# Altium footprint library SamacSys.PcbLib: 39 footprints (part 1 of 3)
Each footprint in its own frame and in the unit in brackets; x right, y up, seen from the top. Pads: shape width x height; smd on the part's side, far side on the other; paste and mask are expansions set on the pad; w line width, h text height; cw(c..) or ccw(c..) is an arc to the next point about the centre after c.
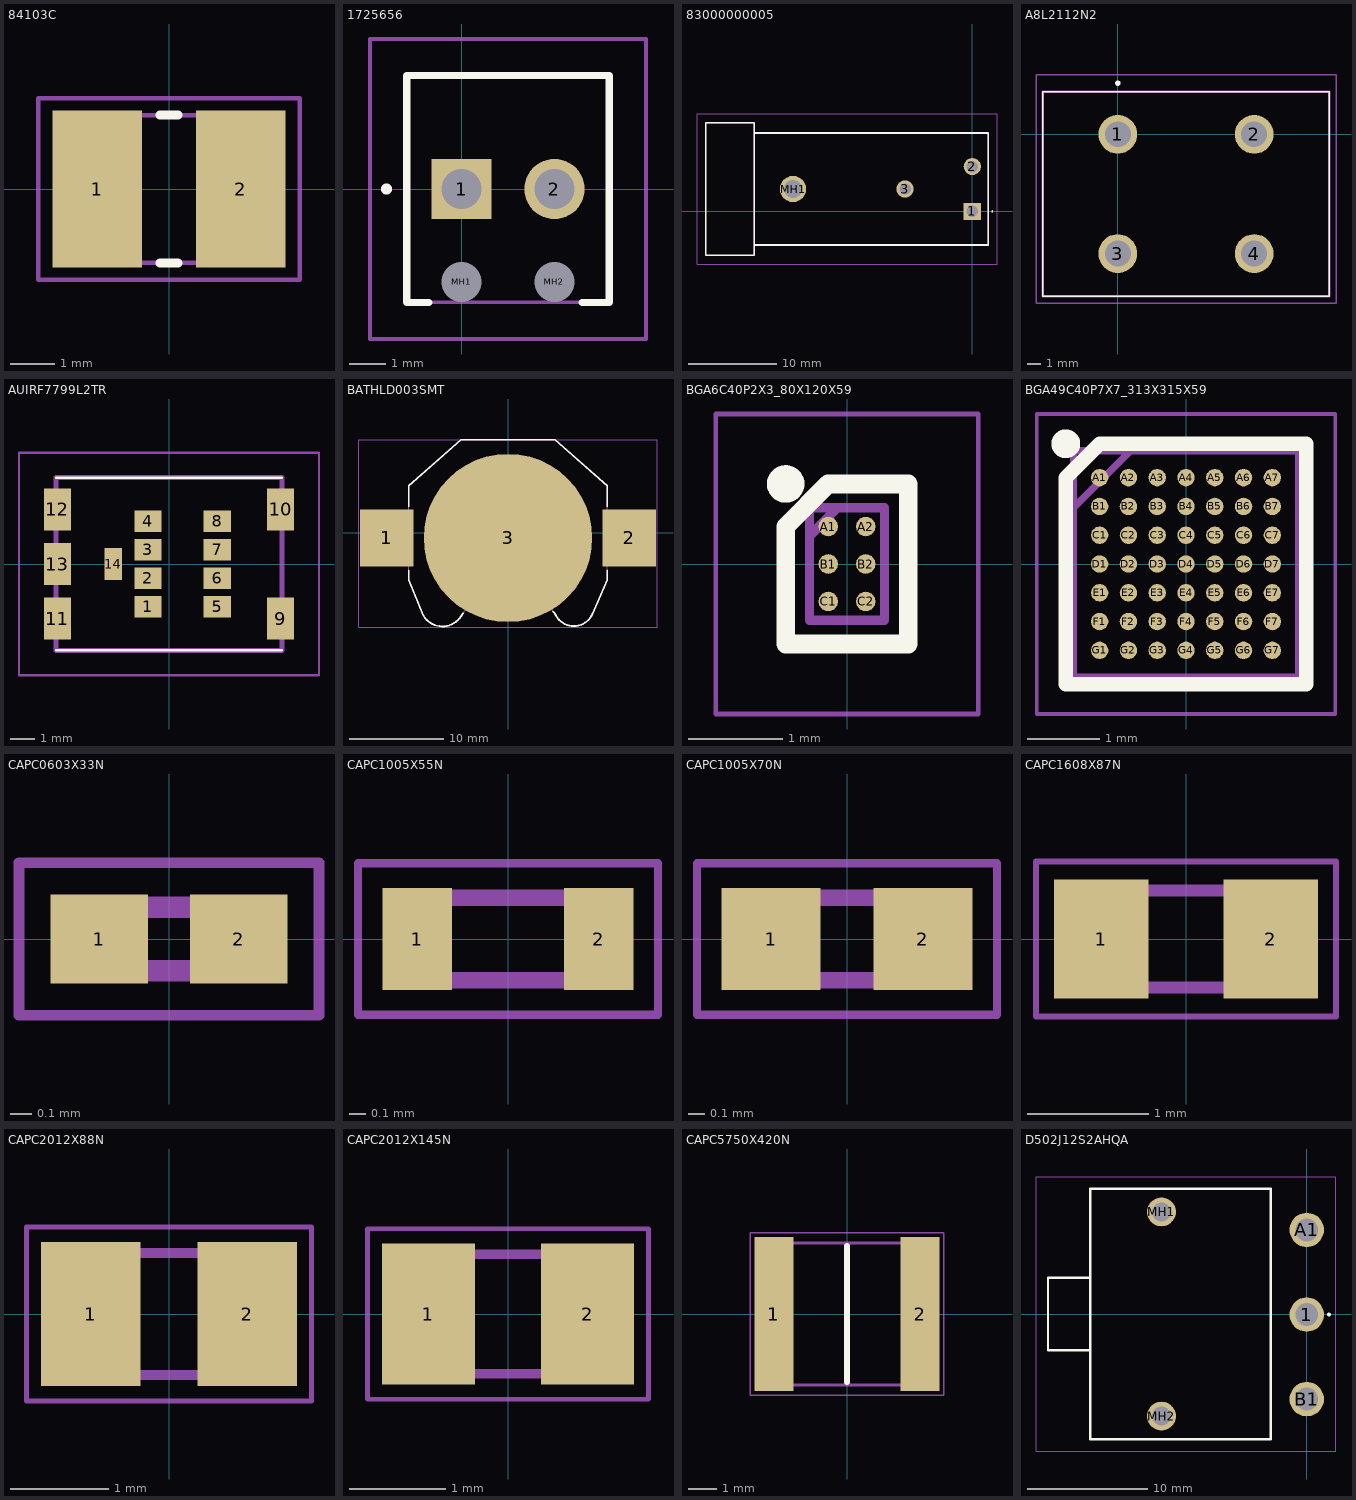
[diagram p0: the footprints below, top view; thin cyan lines are the x and y axes]

## 84103C [mm]
pads (2):
  rect 2x3.5 smd: 1(-1.6,0) 2(1.6,0)
Top Overlay:
  lines w0.2: -0.2,-1.65 0.2,-1.65 ; -0.2,1.65 0.2,1.65
Mechanical 13:
  lines w0.1: -2.25,-1.65 -2.25,1.65 2.25,1.65 2.25,-1.65 -2.25,-1.65
Mechanical 15:
  lines w0.1: -2.921,-2.032 -2.921,2.032 2.921,2.032 2.921,-2.032 -2.921,-2.032
3D body "84103C.stp": height 2.63, standoff 0, extent -2.25,-1.524 2.25,1.676

## 1725656 [mm]
pads (4):
  rect 1.65x1.65 hole 1.1: 1(0,0)
  round 1.65 hole 1.1: 2(2.54,0)
  round 0.55 hole 1.1 unplated: MH1(0,-2.54) MH2(2.54,-2.54)
Top Overlay:
  lines w0.2: -0.9,-3.1 -1.5,-3.1 -1.5,3.1 4.04,3.1 4.04,-3.1 3.3,-3.1 ; -2.1,0 ccw(c-2.05,0) -2,0 ; -2.1,0 cw(c-2.05,0) -2,0 ; -2.1,0 ccw(c-2.05,0) -2,0
Mechanical 13:
  lines w0.1: -1.5,-3.1 4.04,-3.1 4.04,3.1 -1.5,3.1 -1.5,-3.1
Mechanical 15:
  lines w0.1: -2.5,-4.1 5.04,-4.1 5.04,4.1 -2.5,4.1 -2.5,-4.1
3D body "1725656.stp": height 9, standoff -3, extent -1.5,-3.1 4.04,3.1

## 83000000005 [mm]
pads (4):
  rect 1.95x1.95 hole 1.3: 1(0,0)
  round 1.95 hole 1.3: 2(0,5.08) 3(-7.62,2.54)
  round 3 hole 2: MH1(-20.32,2.54)
Top Overlay:
  lines w0.1: 2.2,0 cw(c2.25,0) 2.3,0 cw(c2.25,0) 2.2,0
  lines w0.2: -24.7,-3.81 -24.7,10.04 ; -24.7,-3.81 -24.7,-4.96 -30.2,-4.96 -30.2,10.04 -24.7,10.04 ; -24.7,-3.81 1.8,-3.81 1.8,8.89 -24.7,8.89 -24.7,10.04
Mechanical 13:
  lines w0.1: -24.7,-3.81 -24.7,-4.96 -30.2,-4.96 -30.2,10.04 -24.7,10.04 -24.7,8.89 ; -24.7,-3.81 1.8,-3.81 1.8,8.89 -24.7,8.89 ; -24.7,-3.81 -24.7,8.89
Mechanical 15:
  lines w0.1: -31.2,-5.96 -31.2,11.04 ; -31.2,-5.96 2.8,-5.96 ; -31.2,-5.96 -31.2,11.04 ; -31.2,-5.96 2.8,-5.96 ; -31.2,11.04 2.8,11.04 ; -31.2,11.04 2.8,11.04 ; 2.8,-5.96 2.8,11.04 ; 2.8,-5.96 2.8,11.04
3D body "83000000005.stp": height 16.55, standoff -4, extent -30.2,-4.957 1.8,10.033

## A8L2112N2 [mm]
pads (4):
  round 2.85 hole 1.9: 1(0,0) 2(10,0) 3(0,-8.75) 4(10,-8.75)
Top Overlay:
  lines w0.1: -5.5,-11.875 -5.5,3.125 15.5,3.125 15.5,-11.875 -5.5,-11.875
  lines w0.2: -0.1,3.75 cw(c0,3.75) 0.1,3.75 cw(c0,3.75) -0.1,3.75
Mechanical 13:
  lines w0.2: -5.5,-11.875 -5.5,3.125 15.5,3.125 15.5,-11.875 -5.5,-11.875
Mechanical 15:
  lines w0.1: -6,-12.375 -6,4.35 16,4.35 16,-12.375 -6,-12.375
3D body "A8L-21-12N2.stp": height 22.2, standoff -5, extent -5.5,-11.875 15.5,3.125

## AUIRF7799L2TR [mm]
pads (14):
  rect 1.1x0.85 smd: 1(-0.85,-1.725) 2(-0.85,-0.575) 3(-0.85,0.575) 4(-0.85,1.725) 5(1.95,-1.725) 6(1.95,-0.575) 7(1.95,0.575) 8(1.95,1.725)
  rect 1.1x1.7 smd: 9(4.5,-2.2) 10(4.5,2.2) 11(-4.5,-2.2) 12(-4.5,2.2) 13(-4.5,0)
  rect 0.7x1.3 smd: 14(-2.25,0)
Top Overlay:
  lines w0.1: -4.55,-3.487 4.55,-3.487 ; -4.55,3.488 4.55,3.488
Mechanical 13:
  lines w0.2: -4.55,-3.487 -4.55,3.488 4.55,3.488 4.55,-3.487 -4.55,-3.487
Mechanical 15:
  lines w0.1: -6.05,-4.487 -6.05,4.488 6.05,4.488 6.05,-4.487 -6.05,-4.487
3D body "AUIRF7799L2TR.stp": height 0.84, standoff 0, extent -4.94,-3.487 4.94,3.488

## BATHLD003SMT [mm]
pads (3):
  rect 5.7x6.1 smd: 1(-12.9,-0.55) 2(12.9,-0.55)
  round 17.9 smd: 3(0,-0.55)
Top Overlay:
  lines w0.2: -10.55,-4 -10.55,-5 -9,-8.8 ; -10.55,2.8 -10.55,5 -5,9.9 5,9.9 10.55,5 10.55,2.8 ; -9,-8.799 ccw(c-6.969,-7.588) -5.001,-8.9 -4.8,-8.6 ; 4.8,-8.4 5,-8.6 ; 5,-8.6 ccw(c7,-7.739) 8.999,-8.6 ; 9,-8.6 10.55,-5 10.55,-4
Mechanical 13:
  lines w0.1: -9,-8.8 -10.55,-5 -10.55,5 -5,9.9 0,9.9 5,9.9 10.55,5 10.55,-5 9,-8.6 ; -8.999,-8.801 ccw(c-6.966,-7.495) -4.998,-8.899 ; -5,-8.9 -4,-7.5 ; -4.005,-7.506 cw(c-0.001,-11.137) 3.998,-7.499 ; 4,-7.5 5,-8.6 ; 5,-8.6 ccw(c7,-7.739) 8.999,-8.6
Mechanical 15:
  lines w0.1: -15.875,-10.033 -15.875,9.906 15.875,9.906 15.875,-10.033 -15.875,-10.033
3D body "BAT-HLD-003-SMT.stp": height 4, standoff 0.1, extent -15.32,-9.92 15.18,9.88

## BGA6C40P2X3_80X120X59 [mm]
pads (6):
  round 0.208 smd: A1(-0.2,0.4) A2(0.2,0.4) B1(-0.2,0) B2(0.2,0) C1(-0.2,-0.4) C2(0.2,-0.4)
Top Overlay:
  circle w0.2: c-0.654,0.854 r0.1
  lines w0.2: -0.654,-0.854 -0.654,0.4 -0.2,0.854 0.654,0.854 0.654,-0.854 -0.654,-0.854
Mechanical 13:
  lines w0.1: -0.4,0.3 -0.1,0.6 ; -0.4,-0.6 -0.4,0.6 0.4,0.6 0.4,-0.6 -0.4,-0.6
Mechanical 15:
  lines w0.05: -1.4,-1.6 -1.4,1.6 1.4,1.6 1.4,-1.6 -1.4,-1.6
3D body "TCK402G.stp": height 0.55, standoff 0, extent -0.4,-0.6 0.4,0.6

## BGA49C40P7X7_313X315X59 [mm]
pads (49):
  round 0.242 smd: A1(-1.2,1.2) A2(-0.8,1.2) A3(-0.4,1.2) A4(0,1.2) A5(0.4,1.2) A6(0.8,1.2) A7(1.2,1.2) B1(-1.2,0.8) B2(-0.8,0.8) B3(-0.4,0.8) B4(0,0.8) B5(0.4,0.8) B6(0.8,0.8) B7(1.2,0.8) C1(-1.2,0.4) C2(-0.8,0.4) C3(-0.4,0.4) C4(0,0.4) C5(0.4,0.4) C6(0.8,0.4) C7(1.2,0.4) D1(-1.2,0) D2(-0.8,0) D3(-0.4,0) D4(0,0) D5(0.4,0) D6(0.8,0) D7(1.2,0) E1(-1.2,-0.4) E2(-0.8,-0.4) E3(-0.4,-0.4) E4(0,-0.4) E5(0.4,-0.4) E6(0.8,-0.4) E7(1.2,-0.4) F1(-1.2,-0.8) F2(-0.8,-0.8) F3(-0.4,-0.8) F4(0,-0.8) F5(0.4,-0.8) F6(0.8,-0.8) F7(1.2,-0.8) G1(-1.2,-1.2) G2(-0.8,-1.2) G3(-0.4,-1.2) G4(0,-1.2) G5(0.4,-1.2) G6(0.8,-1.2) G7(1.2,-1.2)
Top Overlay:
  circle w0.2: c-1.671,1.671 r0.1
  lines w0.2: -1.671,-1.671 1.671,-1.671 1.671,1.671 -1.2,1.671 -1.671,1.2 -1.671,-1.671
Mechanical 13:
  lines w0.1: -1.565,0.782 -0.773,1.574 ; -1.565,-1.575 1.565,-1.575 1.565,1.575 -1.565,1.575 -1.565,-1.575
Mechanical 15:
  lines w0.05: -2.075,-2.085 2.075,-2.085 2.075,2.085 -2.075,2.085 -2.075,-2.085
3D body "STM32G431CBY6TR.stp": height 0.59, standoff 0, extent -1.565,-1.575 1.565,1.575

## CAPC0603X33N [mm]
pads (2):
  rect 0.46x0.42 smd: 1(-0.33,0) 2(0.33,0)
Mechanical 13:
  lines w0.1: -0.3,-0.15 -0.3,0.15 0.3,0.15 0.3,-0.15 -0.3,-0.15
Mechanical 15:
  lines w0.05: -0.71,-0.36 -0.71,0.36 0.71,0.36 0.71,-0.36 -0.71,-0.36
3D body "GRM033C81E104KE14D.stp": height 0.33, standoff 0, extent -0.3,-0.15 0.3,0.15

## CAPC1005X55N [mm]
pads (2):
  rect 0.42x0.62 smd: 1(-0.55,0) 2(0.55,0)
Mechanical 13:
  lines w0.1: -0.5,-0.25 -0.5,0.25 0.5,0.25 0.5,-0.25 -0.5,-0.25
Mechanical 15:
  lines w0.05: -0.91,-0.46 -0.91,0.46 0.91,0.46 0.91,-0.46 -0.91,-0.46
3D body "C1005X5R1E474K050BB.stp": height 0.25, standoff -0.25, extent 0,-0.25 1,0.25

## CAPC1005X70N [mm]
pads (2):
  rect 0.6x0.62 smd: 1(-0.46,0) 2(0.46,0)
Mechanical 13:
  lines w0.1: -0.5,-0.25 -0.5,0.25 0.5,0.25 0.5,-0.25 -0.5,-0.25
Mechanical 15:
  lines w0.05: -0.91,-0.46 -0.91,0.46 0.91,0.46 0.91,-0.46 -0.91,-0.46
3D body "GRM155F51E104ZA01D.stp": height 0.5, standoff 0, extent -0.5,-0.25 0.5,0.25

## CAPC1608X87N [mm]
pads (2):
  rect 0.78x0.98 smd: 1(-0.7,0) 2(0.7,0)
Mechanical 13:
  lines w0.1: -0.8,-0.4 0.8,-0.4 0.8,0.4 -0.8,0.4 -0.8,-0.4
Mechanical 15:
  lines w0.05: -1.24,-0.64 1.24,-0.64 1.24,0.64 -1.24,0.64 -1.24,-0.64
3D body "C0603C103J5RAC.stp": height 0.87, standoff 0, extent -0.87,-0.48 0.88,0.47

## CAPC2012X88N [mm]
pads (2):
  rect 1.02x1.47 smd: 1(-0.8,0) 2(0.8,0)
Mechanical 13:
  lines w0.1: -1,-0.625 1,-0.625 1,0.625 -1,0.625 -1,-0.625
Mechanical 15:
  lines w0.05: -1.46,-0.89 1.46,-0.89 1.46,0.89 -1.46,0.89 -1.46,-0.89
3D body "C0805C104M5RAC.stp": height 0.88, standoff 0, extent -1.1,-0.73 1.1,0.72

## CAPC2012X145N [mm]
pads (2):
  rect 0.97x1.47 smd: 1(-0.83,0) 2(0.83,0)
Mechanical 13:
  lines w0.1: -1,-0.625 1,-0.625 1,0.625 -1,0.625 -1,-0.625
Mechanical 15:
  lines w0.05: -1.465,-0.89 1.465,-0.89 1.465,0.89 -1.465,0.89 -1.465,-0.89
3D body "GRM21BC71E475KE11L.stp": height 1.45, standoff 0, extent -1,-0.625 1,0.625

## CAPC5750X420N [mm]
pads (2):
  rect 1.37x5.41 smd: 1(-2.57,0) 2(2.57,0)
Top Overlay:
  lines w0.2: 0,-2.4 0,2.4
Mechanical 13:
  lines w0.1: -2.85,-2.5 2.85,-2.5 2.85,2.5 -2.85,2.5 -2.85,-2.5
Mechanical 15:
  lines w0.05: -3.405,-2.86 3.405,-2.86 3.405,2.86 -3.405,2.86 -3.405,-2.86
3D body "2220Y0630105KXT.stp": height 4.2, standoff 0, extent -2.85,-2.5 2.85,2.5

## D502J12S2AHQA [mm]
pads (5):
  round 2.865 hole 1.91: 1(0,-0.045) A1(0,6.995) B1(0,-7.085)
  round 2.4 hole 1.6: MH1(-12.09,8.495) MH2(-12.09,-8.495)
Top Overlay:
  lines w0.2: -18.03,-3 -21.53,-3 -21.53,3 -18.03,3 ; -18.03,-10.41 -18.03,10.41 -3,10.41 -3,-10.41 -18.03,-10.41 ; 1.8,-0.045 cw(c1.85,-0.045) 1.9,-0.045 cw(c1.85,-0.045) 1.8,-0.045
Mechanical 13:
  lines w0.1: -18.03,-3 -21.53,-3 -21.53,3 -18.03,3 ; -18.03,-10.41 -18.03,10.41 -3,10.41 -3,-10.41 -18.03,-10.41
Mechanical 15:
  lines w0.1: -22.53,-11.41 -22.53,11.41 2.433,11.41 2.433,-11.41 -22.53,-11.41
3D body "D502J12S2AHQA.stp": height 15.72, standoff -2.82, extent -20.778,-10.414 0.687,10.414